# EAGLE library part STAMP-S3M (library StampS3)
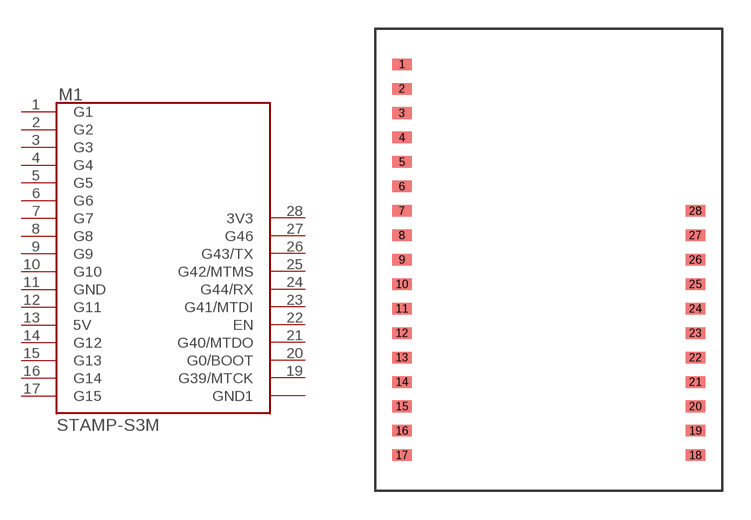
[diagram p0: symbol with the pads of STAMPS3_MAIN_FTP; footprint STAMPS3_MAIN_FTP]

Designator prefix -

## STAMP-S3M  [STAMPS3_MAIN_FTP]
1  G1
2  G2
3  G3
4  G4
5  G5
6  G6
7  G7
8  G8
9  G9
10  G10
11  GND  pwr
12  G11
13  5V  pwr
14  G12
15  G13
16  G14
17  G15
18  GND1  pwr
19  G39/MTCK
20  G0/BOOT
21  G40/MTDO
22  EN  in
23  G41/MTDI
24  G44/RX  in
25  G42/MTMS
26  G43/TX  out
27  G46
28  3V3  pwr

## Footprint STAMPS3_MAIN_FTP (pad centres in mm)
smd 1 x 0.6: 1 0,3.81; 2 0,2.54; 3 0,1.27; 4 0,0; 5 0,-1.27; 6 0,-2.54; 7 0,-3.81; 8 0,-5.08; 9 0,-6.35; 10 0,-7.62; 11 0,-8.89; 12 0,-10.16; 13 0,-11.43; 14 0,-12.7; 15 0,-13.97; 16 0,-15.24; 17 0,-16.51; 18 15.24,-16.51; 19 15.24,-15.24; 20 15.24,-13.97; 21 15.24,-12.7; 22 15.24,-11.43; 23 15.24,-10.16; 24 15.24,-8.89; 25 15.24,-7.62; 26 15.24,-6.35; 27 15.24,-5.08; 28 15.24,-3.81